# Altium schematic symbol library LNJ237W82RA.Schlib: 1 symbol
Pins are listed as number, name and electrical type; pins without a type are passive.

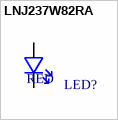
[diagram p0: symbol LNJ237W82RA]

## LNJ237W82RA
designator LED?, comment RED
LED SM 0603 RED 1V95 FWD VOLTAGE
pins: 1, 2